# Altium footprint library myPcbLib1.PcbLib: 99 footprints (part 3 of 7)
Each footprint in its own frame and in the unit in brackets; x right, y up, seen from the top. Pads: shape width x height; smd on the part's side, far side on the other; paste and mask are expansions set on the pad; w line width, h text height; cw(c..) or ccw(c..) is an arc to the next point about the centre after c.
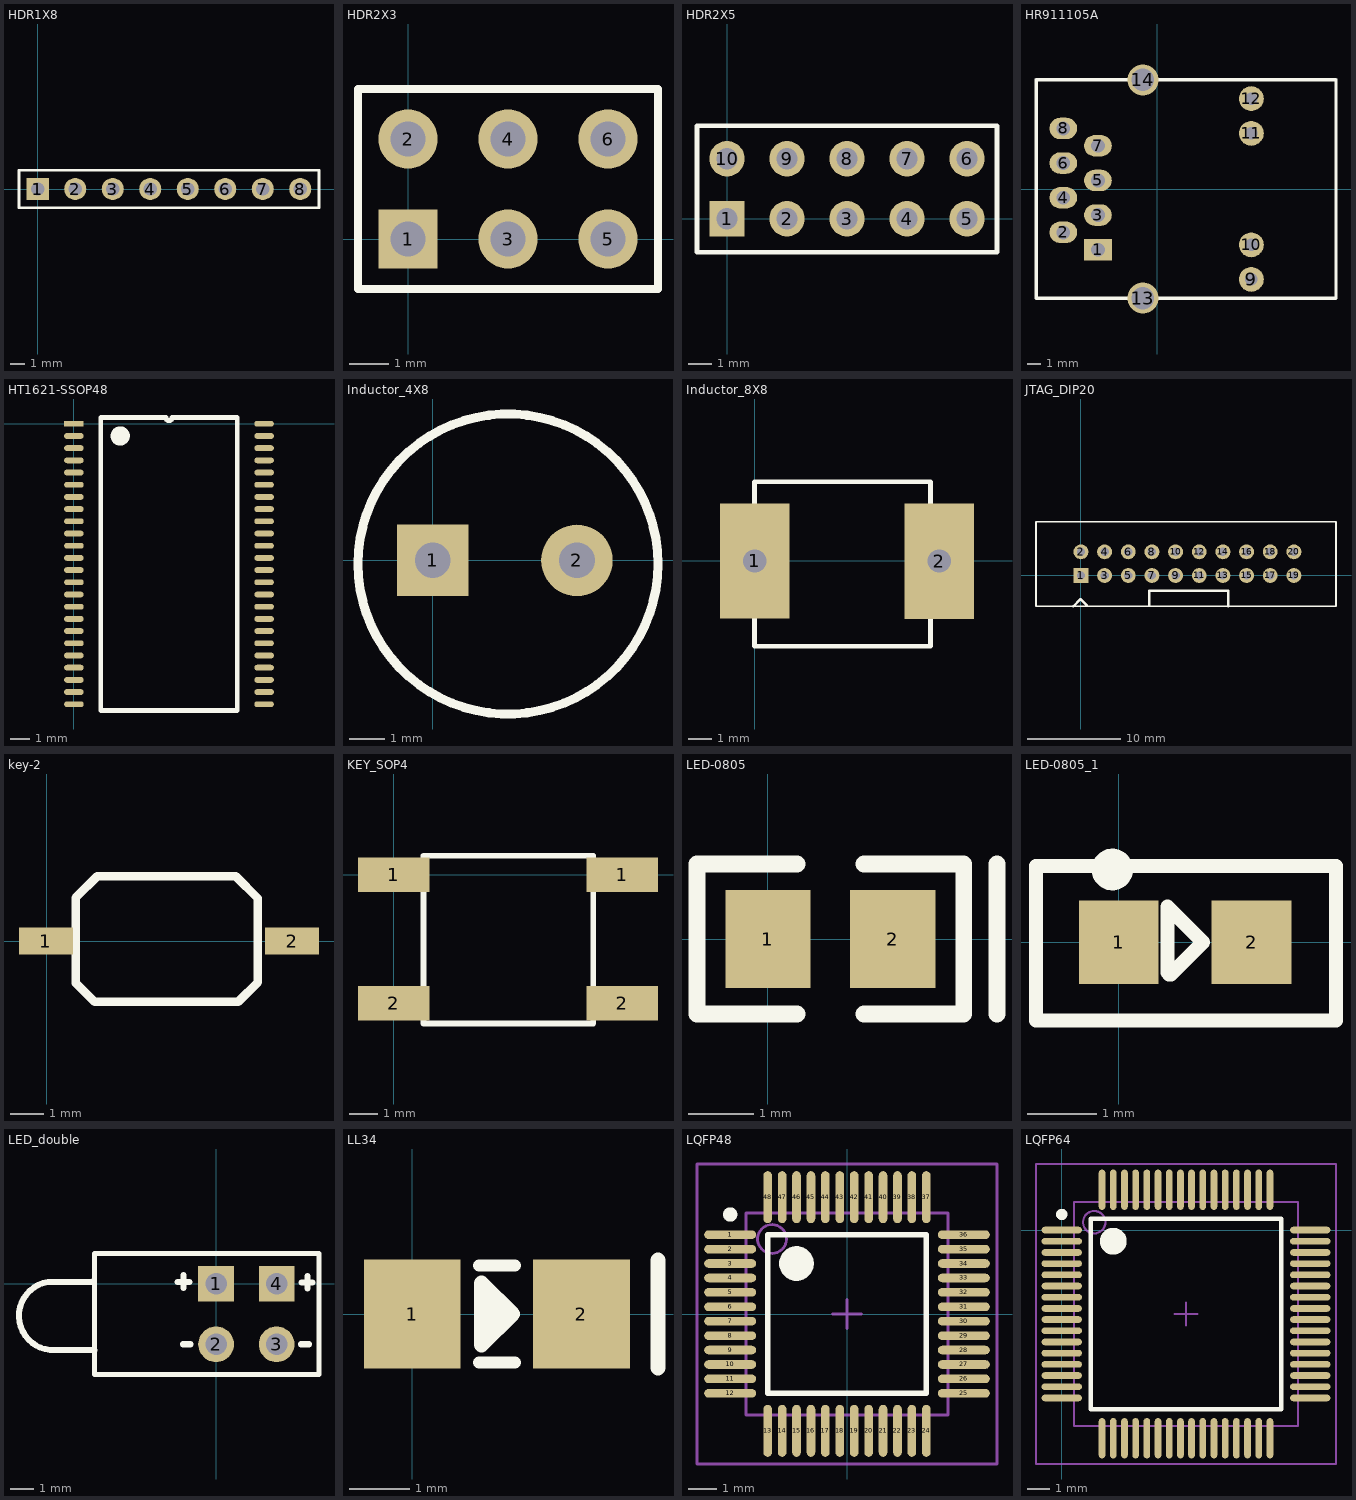
[diagram p2: the footprints below, top view; thin cyan lines are the x and y axes]

## HDR1X8 [mm]
pads (8):
  rect 1.5x1.5 hole 0.9: 1(0,0)
  round 1.5 hole 0.9: 2(2.54,0) 3(5.08,0) 4(7.62,0) 5(10.16,0) 6(12.7,0) 7(15.24,0) 8(17.78,0)
Top Overlay:
  lines w0.2: -1.27,-1.27 -1.27,1.27 19.05,1.27 19.05,-1.27 -1.27,-1.27

## HDR2X3 [mm]
pads (6):
  rect 1.5x1.5 hole 0.9: 1(0,0)
  round 1.5 hole 0.9: 2(0,2.54) 3(2.54,0) 4(2.54,2.54) 5(5.08,0) 6(5.08,2.54)
Top Overlay:
  lines w0.2: 1.482,-1.27 6.35,-1.27 ; 6.35,-1.27 6.35,3.81 -1.27,3.81 -1.27,-1.27 6.35,-1.27

## HDR2X5 [mm]
pads (10):
  rect 1.5x1.5 hole 0.9: 1(0,0)
  round 1.5 hole 0.9: 2(2.54,0) 3(5.08,0) 4(7.62,0) 5(10.16,0) 6(10.16,2.54) 7(7.62,2.54) 8(5.08,2.54) 9(2.54,2.54) 10(0,2.54)
Top Overlay:
  lines w0.2: -1.27,-1.422 11.43,-1.422 11.43,3.937
  lines w0.203: -1.27,-1.422 -1.27,3.937 11.43,3.937

## HR911105A [mil]
pads (14):
  rect 80x62 hole 40: 1(-171.46,-175.2)
  oval 80x62 hole 40: 2(-271.46,-125.2) 3(-171.46,-75.2) 4(-271.46,-25.2) 5(-171.46,24.8) 6(-271.46,74.8) 7(-171.46,124.8) 8(-271.46,174.8)
  round 72 hole 36: 9(271.46,-260.83) 10(271.46,-161.2) 11(271.46,160.67) 12(271.46,260.8)
  round 90 hole 65: 13(-41.54,-314.96) 14(-41.54,314.96)
Top Overlay:
  lines w10: -350.2,-315.2 -349.96,-314.96 ; -350.2,314.8 -350.04,314.96 ; -350.04,314.96 -350.04,-314.88 -349.96,-314.96 ; -350.04,314.96 -41.54,314.96 515.79,314.96 515.95,314.8 515.95,-315.2 515.71,-314.96 -41.54,-314.96 -349.96,-314.96
Multi-Layer:
  circle w5: c88.54,224.8 r70.8
  circle w5: c88.54,-225.2 r70.8

## HT1621-SSOP48 [mil]
pads (48):
  rect 40x12 smd: 1(0,0)
  oval 40x12 smd: 2(0,-25) 3(0,-50) 4(0,-75) 5(0,-100) 6(0,-125) 7(0,-150) 8(0,-175) 9(0,-200) 10(0,-225) 11(0,-250) 12(0,-275) 13(0,-300) 14(0,-325) 15(0,-350) 16(0,-375) 17(0,-400) 18(0,-425) 19(0,-450) 20(0,-475) 21(0,-500) 22(0,-525) 23(0,-550) 24(0,-575) 25(390,-575) 26(390,-550) 27(390,-525) 28(390,-500) 29(390,-475) 30(390,-450) 31(390,-425) 32(390,-400) 33(390,-375) 34(390,-350) 35(390,-325) 36(390,-300) 37(390,-275) 38(390,-250) 39(390,-225) 40(390,-200) 41(390,-175) 42(390,-150) 43(390,-125) 44(390,-100) 45(390,-75) 46(390,-50) 47(390,-25) 48(390,0)
Top Overlay:
  circle w23.62: c95,-25 r7.81
  lines w10: 55,-587.5 335,-587.5 335,12.5 201.25,12.5 cw(c195,12.5) 188.75,12.5 55,12.5 55,-587.5

## Inductor_4X8 [mm]
pads (2):
  rect 2x2 hole 1: 1(0,0)
  round 2 hole 1: 2(4.039,0)
Top Overlay:
  circle w0.254: c2.108,-0.102 r4.2

## Inductor_8X8 [mm]
pads (2):
  rect 3x5 hole 1: 1(0,0) 2(7.993,-0.003)
Top Overlay:
  lines w0.203: -0.007,-3.686 7.613,-3.686 7.613,3.426 -0.007,3.426 -0.007,3.172 -0.007,-3.686

## JTAG_DIP20 [mm]
pads (20):
  rect 1.6x1.6 hole 0.9: 1(0,0)
  round 1.6 hole 0.9: 2(0,2.54) 3(2.54,0) 4(2.54,2.54) 5(5.08,0) 6(5.08,2.54) 7(7.62,0) 8(7.62,2.54) 9(10.16,0) 10(10.16,2.54) 11(12.7,0) 12(12.7,2.54) 13(15.24,0) 14(15.24,2.54) 15(17.78,0) 16(17.78,2.54) 17(20.32,0) 18(20.32,2.54) 19(22.86,0) 20(22.86,2.54)
Top Overlay:
  lines w0.2: -4.826,0.635 -4.826,5.766 27.381,5.766 27.381,-3.302 -4.826,-3.302 -4.826,1.905
  lines w0.254: -0.813,-3.302 -0.051,-2.54 0.635,-3.226 ; 7.341,-3.226 7.341,-1.651 15.824,-1.651 15.824,-3.302

## key-2 [mm] "3*6*2.5mm"
pads (2):
  rect 1.6x0.8 smd: 1(-0.025,0) 2(7.29,0)
Top Overlay:
  lines w0.254: 0.864,-1.245 0.864,0.508 0.864,1.295 1.499,1.93 5.613,1.93 6.274,1.27 6.274,-1.219 5.69,-1.803 1.422,-1.803 0.864,-1.245

## KEY_SOP4 [mm]
pads (4):
  rect 2.5x1.2 smd: 1(0,0) 1(8,0) 2(0,-4.5) 2(8,-4.5)
Top Overlay:
  lines w0.2: 1.041,-5.207 1.041,0.66 6.985,0.66 6.985,-5.207 1.041,-5.207

## LED-0805 [mm]
pads (2):
  rect 1.3x1.5 smd: 1(0,0) 2(1.9,0)
Top Overlay:
  lines w0.254: 0.442,-1.143 -1.082,-1.143 -1.082,1.143 0.442,1.143 ; 1.458,-1.143 2.982,-1.143 2.982,1.143 1.458,1.143 ; 3.49,-1.143 3.49,1.143

## LED-0805_1 [mm]
pads (2):
  rect 1.14x1.2 smd: 1(0,0) 2(1.9,0)
Top Overlay:
  circle w0.254: c-0.091,1.041 r0.17
  lines w0.2: -1.184,-1.118 -1.184,0.27 -1.184,1.092 3.109,1.092 3.109,-1.118 -1.184,-1.118
  lines w0.203: 0.696,-0.432 0.696,0.508 1.204,0 0.747,-0.457 0.721,-0.457 0.696,-0.432

## LED_double [mm]
pads (4):
  rect 1.5x1.5 hole 0.9: 1(0,0) 4(2.54,0)
  round 1.5 hole 0.9: 2(0,-2.54) 3(2.54,-2.54)
Top Overlay:
  lines w0.2: 0.635,1.27 4.318,1.27 4.318,-3.81 -5.105,-3.81 -5.105,1.27 1.905,1.27
  lines w0.254: -5.156,0.102 cw(c-5.218,0.163) -5.218,0.076 -7.061,0.076 ccw(c-6.833,-1.346) -6.965,-2.781 -5.137,-2.781 cw(c-5.137,-2.826) -5.105,-2.794 ; -1.626,0.076 -1.118,0.076 ; -1.397,-2.54 -1.067,-2.54 ; -1.372,-0.167 -1.372,0.356 ; 3.556,-2.54 3.901,-2.54 ; 3.581,0.051 4.039,0.051 ; 3.835,-0.203 3.835,0.33

## LL34 [mm]
pads (2):
  rect 1.6x1.8 smd: 1(0,0) 2(2.8,0)
Top Overlay:
  lines w0.2: 1.1,-0.8 1.7,-0.8 ; 1.1,0.8 1.7,0.8
  lines w0.254: 1.39,0.264 1.39,-0.01 1.146,-0.254 1.146,0.508 ; 4.067,-0.889 4.067,0.889 ; 1.146,0.508 1.654,0 1.146,-0.508 1.146,0.508

## LQFP48 [mm]
pads (48):
  oval 1.8x0.3 smd: 1(-4.05,2.75) 2(-4.05,2.25) 3(-4.05,1.75) 4(-4.05,1.25) 5(-4.05,0.75) 6(-4.05,0.25) 7(-4.05,-0.25) 8(-4.05,-0.75) 9(-4.05,-1.25) 10(-4.05,-1.75) 11(-4.05,-2.25) 12(-4.05,-2.75) 25(4.05,-2.75) 26(4.05,-2.25) 27(4.05,-1.75) 28(4.05,-1.25) 29(4.05,-0.75) 30(4.05,-0.25) 31(4.05,0.25) 32(4.05,0.75) 33(4.05,1.25) 34(4.05,1.75) 35(4.05,2.25) 36(4.05,2.75)
  oval 0.3x1.8 smd: 13(-2.75,-4.05) 14(-2.25,-4.05) 15(-1.75,-4.05) 16(-1.25,-4.05) 17(-0.75,-4.05) 18(-0.25,-4.05) 19(0.25,-4.05) 20(0.75,-4.05) 21(1.25,-4.05) 22(1.75,-4.05) 23(2.25,-4.05) 24(2.75,-4.05) 37(2.75,4.05) 38(2.25,4.05) 39(1.75,4.05) 40(1.25,4.05) 41(0.75,4.05) 42(0.25,4.05) 43(-0.25,4.05) 44(-0.75,4.05) 45(-1.25,4.05) 46(-1.75,4.05) 47(-2.25,4.05) 48(-2.75,4.05)
Top Overlay:
  circle w0.25: c-4.05,3.45 r0.125
  circle w0.6: c-1.75,1.75 r0.3
  lines w0.2: -2.75,-2.75 -2.75,2.75 2.75,2.75 2.75,-2.75 -2.75,-2.75
Mechanical 13:
  circle w0.1: c-2.6,2.6 r0.5
  lines w0.1: -3.5,-3.5 -3.5,3.5 3.5,3.5 3.5,-3.5 -3.5,-3.5
Mechanical 15:
  lines w0.1: -0.5,0 0.5,0 ; 0,-0.5 0,0.5 ; -5.2,-5.2 -5.2,5.2 5.2,5.2 5.2,-5.2 -5.2,-5.2
3D body: height 1.6, standoff 0, extent -3.5,-3.5 3.5,3.5

## LQFP64 [mm] "Thin QFP, 64-Leads, Body 10x10mm, Pitch 0.5mm, IPC Medium Density"
pads (64):
  oval 1.8x0.3 smd: 1(0,0) 2(0,-0.5) 3(0,-1) 4(0,-1.5) 5(0,-2) 6(0,-2.5) 7(0,-3) 8(0,-3.5) 9(0,-4) 10(0,-4.5) 11(0,-5) 12(0,-5.5) 13(0,-6) 14(0,-6.5) 15(0,-7) 16(0,-7.5) 33(11.1,-7.5) 34(11.1,-7) 35(11.1,-6.5) 36(11.1,-6) 37(11.1,-5.5) 38(11.1,-5) 39(11.1,-4.5) 40(11.1,-4) 41(11.1,-3.5) 42(11.1,-3) 43(11.1,-2.5) 44(11.1,-2) 45(11.1,-1.5) 46(11.1,-1) 47(11.1,-0.5) 48(11.1,0)
  oval 0.3x1.8 smd: 17(1.8,-9.3) 18(2.3,-9.3) 19(2.8,-9.3) 20(3.3,-9.3) 21(3.8,-9.3) 22(4.3,-9.3) 23(4.8,-9.3) 24(5.3,-9.3) 25(5.8,-9.3) 26(6.3,-9.3) 27(6.8,-9.3) 28(7.3,-9.3) 29(7.8,-9.3) 30(8.3,-9.3) 31(8.8,-9.3) 32(9.3,-9.3) 49(9.3,1.8) 50(8.8,1.8) 51(8.3,1.8) 52(7.8,1.8) 53(7.3,1.8) 54(6.8,1.8) 55(6.3,1.8) 56(5.8,1.8) 57(5.3,1.8) 58(4.8,1.8) 59(4.3,1.8) 60(3.8,1.8) 61(3.3,1.8) 62(2.8,1.8) 63(2.3,1.8) 64(1.8,1.8)
Top Overlay:
  circle w0.6: c2.3,-0.5 r0.3
  circle w0.25: c0,0.7 r0.125
  lines w0.2: 1.3,-8 9.8,-8 9.8,0.5 1.3,0.5 1.3,-8
Mechanical 13:
  circle w0.1: c1.45,0.35 r0.5
  lines w0.1: 0.55,-8.75 10.55,-8.75 10.55,1.25 0.55,1.25 0.55,-8.75
Mechanical 15:
  lines w0.1: 5.05,-3.75 6.05,-3.75 ; 5.55,-4.25 5.55,-3.25 ; -1.15,-10.45 12.25,-10.45 12.25,2.95 -1.15,2.95 -1.15,-10.45
3D body: height 1.6, standoff 0, extent 0.55,-8.75 10.55,1.25